# EAGLE library part PC_IC_CD4511BE_CD4511BE (library Traffic Light Controller)
None Check availability <https://pricing.snapeda.com/parts/CD4511BE/Texas%20Instruments/view-part?ref=eda>
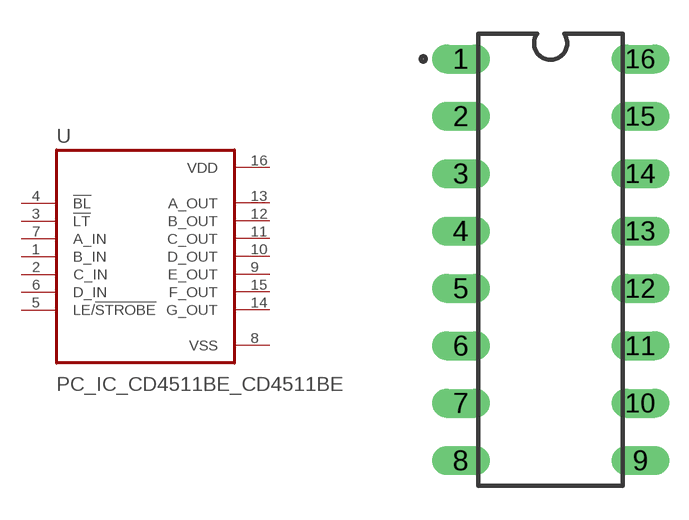
[diagram p1: symbol with the pads of PC_IC_CD4511BE_DIP794W45P254L1969H508Q16; footprint PC_IC_CD4511BE_DIP794W45P254L1969H508Q16]

Designator prefix U

## PC_IC_CD4511BE_CD4511BE (AVAILABILITY: In Stock; DESCRIPTION: CMOS BCD-to-7-Segment LED Latch Decoder Drivers 16-PDIP -55 to 125; MF: Texas Instruments; MP: CD4511BE; PACKAGE: PDIP-16 Texas Instruments; PRICE: None; PURCHASE-URL: https://pricing.snapeda.com/search/part/CD4511BE/?ref=eda)  [PC_IC_CD4511BE_DIP794W45P254L1969H508Q16]
1  B_IN  in
2  C_IN  in
3  !LT  in
4  !BL  in
5  LE/!STROBE  in
6  D_IN  in
7  A_IN  in
8  VSS  pwr
9  E_OUT  out
10  D_OUT  out
11  C_OUT  out
12  B_OUT  out
13  A_OUT  out
14  G_OUT  out
15  F_OUT  out
16  VDD  pwr

## Footprint PC_IC_CD4511BE_DIP794W45P254L1969H508Q16 (pad centres in mm)
drill 0.78 pad 1.13 long: 1 -3.97,8.89; 2 -3.97,6.35; 3 -3.97,3.81; 4 -3.97,1.27; 5 -3.97,-1.27; 6 -3.97,-3.81; 7 -3.97,-6.35; 8 -3.97,-8.89; 9 3.97,-8.89; 10 3.97,-6.35; 11 3.97,-3.81; 12 3.97,-1.27; 13 3.97,1.27; 14 3.97,3.81; 15 3.97,6.35; 16 3.97,8.89